# Altium footprint library CDCVF2505PWR.PcbLib: 2 footprints
Each footprint in its own frame and in the unit in brackets; x right, y up, seen from the top. Pads: shape width x height; smd on the part's side, far side on the other; paste and mask are expansions set on the pad; w line width, h text height; cw(c..) or ccw(c..) is an arc to the next point about the centre after c.
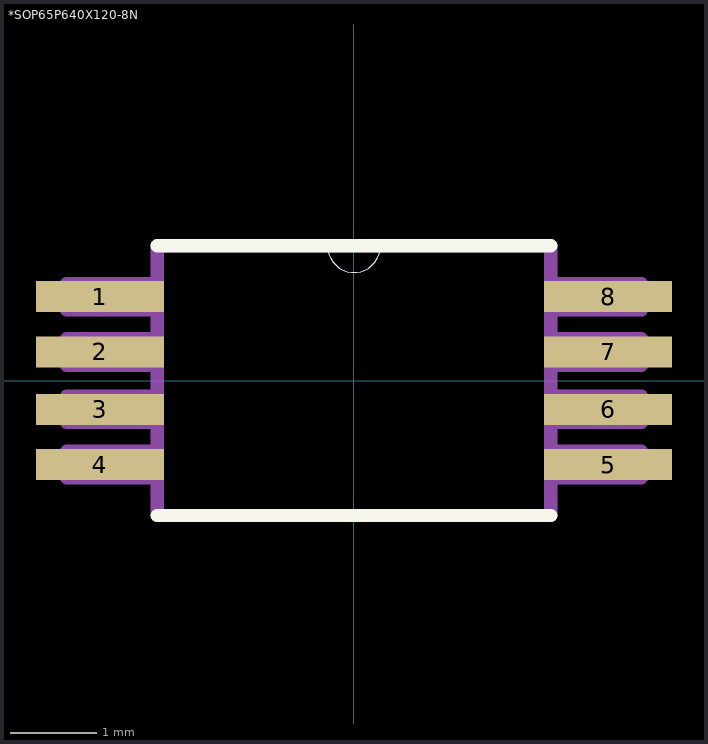
[diagram p0: the footprints below, top view; thin cyan lines are the x and y axes]

## *SOP65P640X120-8N [mil]
pads (8):
  rect 58x14 smd: 1(-115,38) 2(-115,13) 3(-115,-13) 4(-115,-38) 5(115,-38) 6(115,-13) 7(115,13) 8(115,38)
Top Overlay:
  lines w0: -12,61 ccw(c0,61) 12,61
  lines w6: -89,-61 89,-61 ; -89,61 -12,61 12,61 89,61
Mechanical 4:
  lines w0: -12,61 ccw(c0,61) 12,61 cw(c0,61) -12,61
  lines w6: -130,-44 -89,-44 ; -130,-44 -130,-32 ; -130,-44 -89,-44 ; -130,-44 -130,-32 ; -130,-32 -89,-32 ; -130,-32 -89,-32 ; -130,-19 -89,-19 ; -130,-19 -130,-7 ; -130,-19 -89,-19 ; -130,-19 -130,-7 ; -130,-7 -89,-7 ; -130,-7 -89,-7 ; -130,7 -89,7 ; -130,7 -130,19 ; -130,7 -89,7 ; -130,7 -130,19 ; -130,19 -89,19 ; -130,19 -89,19 ; -130,32 -89,32 ; -130,32 -130,44 ; -130,32 -89,32 ; -130,32 -130,44 ; -130,44 -89,44 ; -130,44 -89,44 ; -89,-61 -89,61 ; -89,-61 89,-61 ; -89,-61 -89,61 ; -89,-61 89,-61 ; -89,-44 -89,-32 ; -89,-44 -89,-32 ; -89,-19 -89,-7 ; -89,-19 -89,-7 ; -89,7 -89,19 ; -89,7 -89,19 ; -89,32 -89,44 ; -89,32 -89,44 ; -89,61 -12,61 ; -89,61 -12,61 ; -12,61 12,61 ; -12,61 12,61 ; 12,61 89,61 ; 12,61 89,61 ; 89,-61 89,61 ; 89,-61 89,61 ; 89,-44 130,-44 ; 89,-44 89,-32 ; 89,-44 130,-44 ; 89,-44 89,-32 ; 89,-32 130,-32 ; 89,-32 130,-32 ; 89,-19 130,-19 ; 89,-19 89,-7 ; 89,-19 130,-19 ; 89,-19 89,-7 ; 89,-7 130,-7 ; 89,-7 130,-7 ; 89,7 130,7 ; 89,7 89,19 ; 89,7 130,7 ; 89,7 89,19 ; 89,19 130,19 ; 89,19 130,19 ; 89,32 130,32 ; 89,32 89,44 ; 89,32 130,32 ; 89,32 89,44 ; 89,44 130,44 ; 89,44 130,44 ; 130,-44 130,-32 ; 130,-44 130,-32 ; 130,-19 130,-7 ; 130,-19 130,-7 ; 130,7 130,19 ; 130,7 130,19 ; 130,32 130,44 ; 130,32 130,44

## PCBComponent_1 [mil]